# Altium footprint library sensor_PCB.PcbLib: 1 footprints
Each footprint in its own frame and in the unit in brackets; x right, y up, seen from the top. Pads: shape width x height; smd on the part's side, far side on the other; paste and mask are expansions set on the pad; w line width, h text height; cw(c..) or ccw(c..) is an arc to the next point about the centre after c.
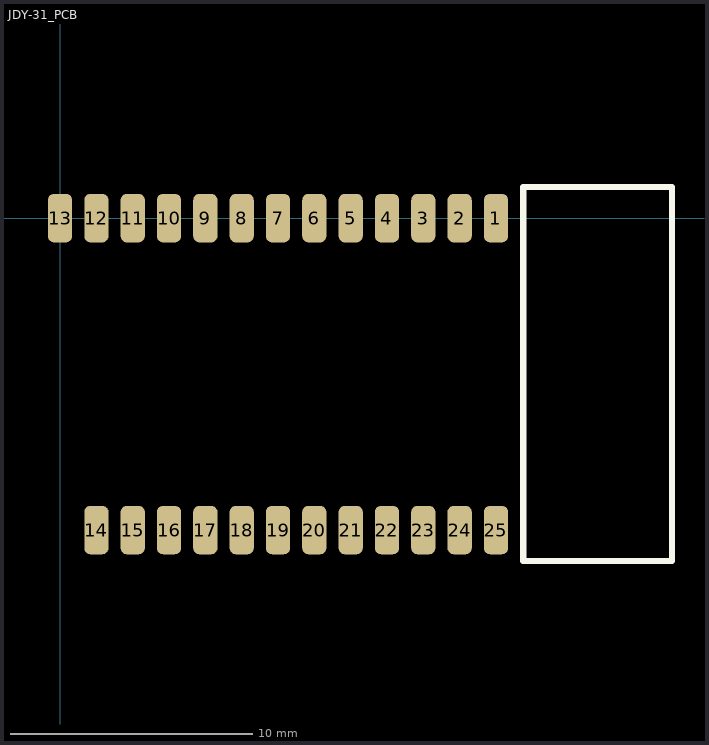
[diagram p0: the footprint, top view; thin cyan lines are the x and y axes]

## JDY-31_PCB [mm]
pads (25):
  rrect50% 1x2 smd: 1(18,0) 2(16.5,0) 3(15,0) 4(13.5,0) 5(12,0) 6(10.5,0) 7(9,0) 8(7.5,0) 9(6,0) 10(4.5,0) 11(3,0) 12(1.5,0) 13(0,0) 14(1.5,-12.88) 15(3,-12.88) 16(4.5,-12.88) 17(6,-12.88) 18(7.5,-12.88) 19(9,-12.88) 20(10.5,-12.88) 21(12,-12.88) 22(13.5,-12.88) 23(15,-12.88) 24(16.5,-12.88) 25(18,-12.88)
Top Overlay:
  lines w0.25: 19.125,-14.15 25.225,-14.15 ; 19.125,1.275 25.275,1.275 25.275,-14.15
  lines w0.254: 19.125,1.275 19.125,-14.15 ; 19.125,-14.15 19.125,-14.15